# Altium footprint library QUAN-AD-Library.PcbLib: 213 footprints (part 9 of 14)
Each footprint in its own frame and in the unit in brackets; x right, y up, seen from the top. Pads: shape width x height; smd on the part's side, far side on the other; paste and mask are expansions set on the pad; w line width, h text height; cw(c..) or ccw(c..) is an arc to the next point about the centre after c.
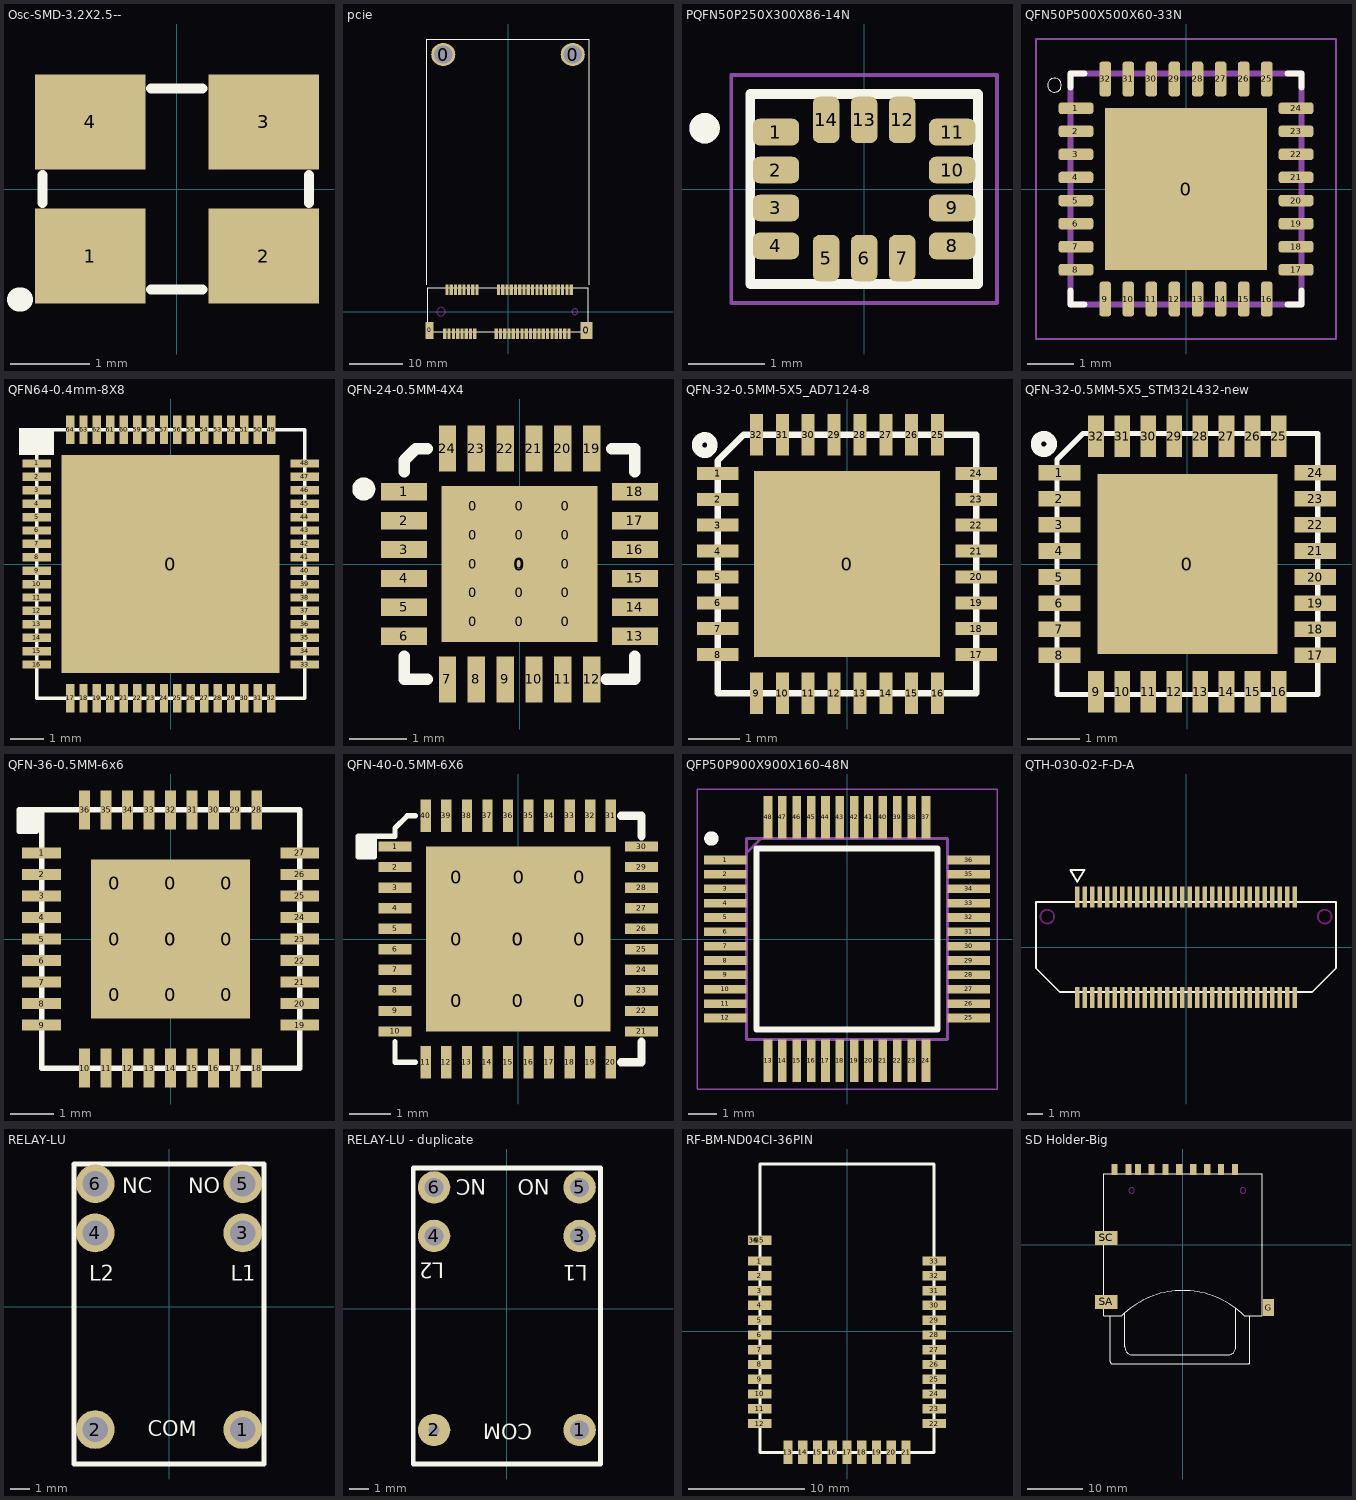
[diagram p8: the footprints below, top view; thin cyan lines are the x and y axes]

## Osc-SMD-3.2X2.5-- [mm] "Osc-SMD-3.2X2.5--"
pads (4):
  rect 1.4x1.2 smd: 1(-1.1,-0.85) 2(1.1,-0.85) 3(1.1,0.85) 4(-1.1,0.85)
Top Overlay:
  lines w0.127: -1.7,-0.175 -1.7,0.175 ; -0.325,-1.275 0.325,-1.275 ; -0.325,1.275 0.325,1.275 ; 1.675,-0.175 1.675,0.175
  lines w0.3: -2,-1.4 -1.975,-1.4

## pcie [mm] "PCIE"
pads (56):
  rect 1.5x3.2 smd: 0(-14.65,-3.5)
  oval 4.5x4.3 hole 3.4: 0(-12.1,48.05) 0(12.1,48.05)
  rect 2.3x3.2 smd: 0(14.65,-3.5)
  rect 0.6x2 smd: 1(-11.8,-4.1) 2(-11.4,4.1) 3(-11,-4.1) 4(-10.6,4.1) 5(-10.2,-4.1) 6(-9.8,4.1) 7(-9.4,-4.1) 8(-9,4.1) 9(-8.6,-4.1) 10(-8.2,4.1) 11(-7.8,-4.1) 12(-7.4,4.1) 13(-7,-4.1) 14(-6.6,4.1) 15(-6.2,-4.1) 16(-5.8,4.1) 17(-2.2,-4.1) 18(-1.8,4.1) 19(-1.4,-4.1) 20(-1,4.1) 21(-0.6,-4.1) 22(-0.2,4.1) 23(0.2,-4.1) 24(0.6,4.1) 25(1,-4.1) 26(1.4,4.1) 27(1.8,-4.1) 28(2.2,4.1) 29(2.6,-4.1) 30(3,4.1) 31(3.4,-4.1) 32(3.8,4.1) 33(4.2,-4.1) 34(4.6,4.1) 35(5,-4.1) 37(5.8,-4.1) 39(6.6,-4.1) 40(7,4.1) 41(7.4,-4.1) 42(7.8,4.1) 43(8.2,-4.1) 44(8.6,4.1) 45(9,-4.1) 46(9.4,4.1) 47(9.8,-4.1) 48(10.2,4.1) 49(10.6,-4.1) 50(11,4.1) 51(11.4,-4.1) 52(11.8,4.1)
  rect 0.55x2 smd: 36(5.4,4.1) 38(6.2,4.1)
Top Overlay:
  lines w0.127: -15.2,5 -15.2,50.95 15.2,50.95 15.2,5 ; -14.95,-3.7 14.95,-3.7 14.95,4.5 -14.95,4.5 -14.95,-3.7
Keep-Out Layer:
  circle w0.1: c-12.5,0 r0.8
  circle w0.1: c12.5,0 r0.55

## PQFN50P250X300X86-14N [mm]
pads (14):
  rrect50% 0.61x0.35 smd: 1(-1.16,0.75) 2(-1.16,0.25) 3(-1.16,-0.25) 4(-1.16,-0.75) 8(1.16,-0.75) 9(1.16,-0.25) 10(1.16,0.25) 11(1.16,0.75)
  rrect50% 0.35x0.61 smd: 5(-0.5,-0.91) 6(0,-0.91) 7(0.5,-0.91) 12(0.5,0.91) 13(0,0.91) 14(-0.5,0.91)
Top Overlay:
  circle w0.2: c-2.1,0.8 r0.1
  lines w0.127: -0.995,-1.25 -1.5,-1.25 ; -0.995,1.25 -1.5,1.25 ; 0.995,-1.25 1.5,-1.25 ; 0.995,1.25 1.5,1.25 ; -1.5,-1.25 1.5,-1.25 ; -1.5,-1.25 -1.5,1.25 ; -1.5,1.25 1.5,1.25 ; 1.5,-1.25 1.5,1.25
Mechanical 13:
  circle w0.2: c-2.1,0.8 r0.1
Mechanical 15:
  lines w0.05: -1.75,-1.5 1.75,-1.5 1.75,1.5 -1.75,1.5 -1.75,-1.5
3D body "step_temp.STEP": height 0.86, standoff 0, extent -1.5,-1.25 1.5,1.25

## QFN50P500X500X60-33N [mm]
pads (33):
  rect 3.5x3.5 smd paste-3: 0(0,0)
  rrect54% 0.76x0.25 smd: 1(-2.385,1.75) 2(-2.385,1.25) 3(-2.385,0.75) 4(-2.385,0.25) 5(-2.385,-0.25) 6(-2.385,-0.75) 7(-2.385,-1.25) 8(-2.385,-1.75) 17(2.385,-1.75) 18(2.385,-1.25) 19(2.385,-0.75) 20(2.385,-0.25) 21(2.385,0.25) 22(2.385,0.75) 23(2.385,1.25) 24(2.385,1.75)
  rrect54% 0.25x0.76 smd: 9(-1.75,-2.385) 10(-1.25,-2.385) 11(-0.75,-2.385) 12(-0.25,-2.385) 13(0.25,-2.385) 14(0.75,-2.385) 15(1.25,-2.385) 16(1.75,-2.385) 25(1.75,2.385) 26(1.25,2.385) 27(0.75,2.385) 28(0.25,2.385) 29(-0.25,2.385) 30(-0.75,2.385) 31(-1.25,2.385) 32(-1.75,2.385)
Top Overlay:
  circle w0: c-2.85,2.25 r0.15
  lines w0.127: -2.5,-2.2 -2.5,-2.5 -2.2,-2.5 ; -2.5,2.2 -2.5,2.5 -2.2,2.5 ; 2.2,-2.5 2.5,-2.5 2.5,-2.2 ; 2.2,2.5 2.5,2.5 2.5,2.2
Top Paste:
  region: 1.1,-1.102 -1.102,-1.102 -1.102,1.1 1.1,1.1
Mechanical 13:
  lines w0.127: -2.5,-2.5 2.5,-2.5 2.5,2.5 -2.5,2.5 -2.5,-2.5
Mechanical 15:
  lines w0.05: -3.25,-3.25 3.25,-3.25 3.25,3.25 -3.25,3.25 -3.25,-3.25
3D body "step_temp.STEP": height 0.6, standoff 0, extent -2.5,-2.5 2.5,2.5

## QFN64-0.4mm-8X8 [mm] "QFN64-0.4mm-8X8"
pads (65):
  rect 6.5x6.5 smd: 0(0,0)
  rect 0.85x0.25 smd: 1(-4,3) 2(-4,2.6) 3(-4,2.2) 4(-4,1.8) 5(-4,1.4) 6(-4,1) 7(-4,0.6) 8(-4,0.2) 9(-4,-0.2) 10(-4,-0.6) 11(-4,-1) 12(-4,-1.4) 13(-4,-1.8) 14(-4,-2.2) 15(-4,-2.6) 16(-4,-3) 33(4,-3) 34(4,-2.6) 35(4,-2.2) 36(4,-1.8) 37(4,-1.4) 38(4,-1) 39(4,-0.6) 40(4,-0.2) 41(4,0.2) 42(4,0.6) 43(4,1) 44(4,1.4) 45(4,1.8) 46(4,2.2) 47(4,2.6) 48(4,3)
  rect 0.25x0.85 smd: 17(-3,-4) 18(-2.6,-4) 19(-2.2,-4) 20(-1.8,-4) 21(-1.4,-4) 22(-1,-4) 23(-0.6,-4) 24(-0.2,-4) 25(0.2,-4) 26(0.6,-4) 27(1,-4) 28(1.4,-4) 29(1.8,-4) 30(2.2,-4) 31(2.6,-4) 32(3,-4) 49(3,4) 50(2.6,4) 51(2.2,4) 52(1.8,4) 53(1.4,4) 54(1,4) 55(0.6,4) 56(0.2,4) 57(-0.2,4) 58(-0.6,4) 59(-1,4) 60(-1.4,4) 61(-1.8,4) 62(-2.2,4) 63(-2.6,4) 64(-3,4)
Top Overlay:
  rectangle: -4.525,3.25 -3.475,4.05
  lines w0.1: -4,-4 4,-4 4,4 -4,4 -4,-4
3D body "User Library-QFN64_8x8.sldprt": height 0.81, standoff 0, extent -4,-4 4,4

## QFN-24-0.5MM-4X4 [mm]
pads (40):
  rect 0.45x0.3 on Top Solder: 0(-0.8,-1) 0(-0.8,-0.5) 0(-0.8,0) 0(-0.8,0.5) 0(-0.8,1) 0(0,-1) 0(0,-0.5) 0(0,0) 0(0,0.5) 0(0,1) 0(0.8,-1) 0(0.8,-0.5) 0(0.8,0) 0(0.8,0.5) 0(0.8,1)
  rect 2.7x2.7 smd: 0(0,0)
  rect 0.8x0.3 smd: 1(-2,1.25) 2(-2,0.75) 3(-2,0.25) 4(-2,-0.25) 5(-2,-0.75) 6(-2,-1.25) 13(2,-1.25) 14(2,-0.75) 15(2,-0.25) 16(2,0.25) 17(2,0.75) 18(2,1.25)
  rect 0.3x0.8 smd: 7(-1.25,-2) 8(-0.75,-2) 9(-0.25,-2) 10(0.25,-2) 11(0.75,-2) 12(1.25,-2) 19(1.25,2) 20(0.75,2) 21(0.25,2) 22(-0.25,2) 23(-0.75,2) 24(-1.25,2)
Top Overlay:
  circle w0.2: c-2.7,1.3 r0.1
  lines w0.2: -2,-1.6 -2,-2 -1.6,-2 ; -2,1.6 -2,1.8 -1.8,2 -1.6,2 ; 1.5,-2 2,-2 2,-1.6 ; 1.6,2 2,2 2,1.6

## QFN-32-0.5MM-5X5_AD7124-8 [mm] "FN-32-0.5MM-5X5_AD7124-8"
pads (33):
  rect 3.6x3.6 smd mask+0.05: 0(0,0)
  rect 0.8x0.25 smd: 1(-2.5,1.75) 2(-2.5,1.25) 3(-2.5,0.75) 4(-2.5,0.25) 5(-2.5,-0.25) 6(-2.5,-0.75) 7(-2.5,-1.25) 8(-2.5,-1.75) 17(2.5,-1.75) 18(2.5,-1.25) 19(2.5,-0.75) 20(2.5,-0.25) 21(2.5,0.25) 22(2.5,0.75) 23(2.5,1.25) 24(2.5,1.75)
  rect 0.25x0.8 smd: 9(-1.75,-2.5) 10(-1.25,-2.5) 11(-0.75,-2.5) 12(-0.25,-2.5) 13(0.25,-2.5) 14(0.75,-2.5) 15(1.25,-2.5) 16(1.75,-2.5) 25(1.75,2.5) 26(1.25,2.5) 27(0.75,2.5) 28(0.25,2.5) 29(-0.25,2.5) 30(-0.75,2.5) 31(-1.25,2.5) 32(-1.75,2.5)
Top Overlay:
  circle w0.2: c-2.75,2.3 r0.15
  lines w0.127: -2.5,-2.5 2.5,-2.5 2.5,2.5 -2,2.5 -2.5,2 -2.5,-2.5

## QFN-32-0.5MM-5X5_STM32L432-new [mm] "QFN-32-0.5MM-5X5_STM32L432-new"
pads (33):
  rect 3.45x3.45 smd: 0(0,0)
  rect 0.8x0.3 smd: 1(-2.45,1.75) 2(-2.45,1.25) 3(-2.45,0.75) 4(-2.45,0.25) 5(-2.45,-0.25) 6(-2.45,-0.75) 7(-2.45,-1.25) 8(-2.45,-1.75) 17(2.45,-1.75) 18(2.45,-1.25) 19(2.45,-0.75) 20(2.45,-0.25) 21(2.45,0.25) 22(2.45,0.75) 23(2.45,1.25) 24(2.45,1.75)
  rect 0.3x0.8 smd: 9(-1.75,-2.45) 10(-1.25,-2.45) 11(-0.75,-2.45) 12(-0.25,-2.45) 13(0.25,-2.45) 14(0.75,-2.45) 15(1.25,-2.45) 16(1.75,-2.45) 25(1.75,2.45) 26(1.25,2.45) 27(0.75,2.45) 28(0.25,2.45) 29(-0.25,2.45) 30(-0.75,2.45) 31(-1.25,2.45) 32(-1.75,2.45)
Top Overlay:
  circle w0.2: c-2.75,2.3 r0.15
  lines w0.1: -2.5,-2.5 2.5,-2.5 2.5,2.5 -2,2.5 -2.5,2 -2.5,-2.5

## QFN-36-0.5MM-6x6 [mm] "QFN-36-0.5MM-6x6"
pads (46):
  rect 0.9x0.9 on Top Paste: 0(-1.3,-1.3) 0(-1.3,0) 0(-1.3,1.3) 0(0,1.3) 0(0,-1.3) 0(0,0) 0(1.3,-1.3) 0(1.3,0) 0(1.3,1.3)
  rect 3.7x3.7 smd paste-5: 0(0,0)
  rect 0.9x0.25 smd: 1(-3,2) 2(-3,1.5) 3(-3,1) 4(-3,0.5) 5(-3,0) 6(-3,-0.5) 7(-3,-1) 8(-3,-1.5) 9(-3,-2) 19(3,-2) 20(3,-1.5) 21(3,-1) 22(3,-0.5) 23(3,0) 24(3,0.5) 25(3,1) 26(3,1.5) 27(3,2)
  rect 0.25x0.9 smd: 10(-2,-3) 11(-1.5,-3) 12(-1,-3) 13(-0.5,-3) 14(0,-3) 15(0.5,-3) 16(1,-3) 17(1.5,-3) 18(2,-3) 28(2,3) 29(1.5,3) 30(1,3) 31(0.5,3) 32(0,3) 33(-0.5,3) 34(-1,3) 35(-1.5,3) 36(-2,3)
Top Overlay:
  rectangle: -3.525,2.5 -3.125,3
  lines w0.127: -3.5,3 -3,3 ; -3,3 -3,-3 3,-3 3,3 -3,3 ; -3.525,2.5 -3.325,2.5 -3.125,2.5 -3.125,3 -3.325,3 -3.525,3 -3.525,2.5

## QFN-40-0.5MM-6X6 [mm] "QFN-40-0.5MM-6X6"
pads (50):
  rect 1.2x1.2 on Top Paste: 0(-1.5,-1.5) 0(-1.5,0) 0(-1.5,1.5) 0(0,-1.5) 0(0,0) 0(0.025,1.5) 0(1.5,-1.5) 0(1.5,1.5) 0(1.5,0)
  rect 4.5x4.5 smd paste-5: 0(0,0)
  rect 0.8x0.25 smd: 1(-3,2.25) 2(-3,1.75) 3(-3,1.25) 4(-3,0.75) 5(-3,0.25) 6(-3,-0.25) 7(-3,-0.75) 8(-3,-1.25) 9(-3,-1.75) 10(-3,-2.25) 21(3,-2.25) 22(3,-1.75) 23(3,-1.25) 24(3,-0.75) 25(3,-0.25) 26(3,0.25) 27(3,0.75) 28(3,1.25) 29(3,1.75) 30(3,2.25)
  rect 0.25x0.8 smd: 11(-2.25,-3) 12(-1.75,-3) 13(-1.25,-3) 14(-0.75,-3) 15(-0.25,-3) 16(0.25,-3) 17(0.75,-3) 18(1.25,-3) 19(1.75,-3) 20(2.25,-3) 31(2.25,3) 32(1.75,3) 33(1.25,3) 34(0.75,3) 35(0.25,3) 36(-0.25,3) 37(-0.75,3) 38(-1.25,3) 39(-1.75,3) 40(-2.25,3)
Top Overlay:
  rectangle: -3.901,2 -3.501,2.5
  lines w0.127: -3,-2.5 -3,-3 -2.5,-3 ; -2.5,3 -2.7,3 -3,2.7 -3,2.5 -3.5,2.5 ; -3.5,2.5 -3.5,2 -3.7,2 -3.9,2 -3.9,2.5 -3.7,2.5 -3.5,2.5
  lines w0.2: 2.5,-3 3,-3 3,-2.5 ; 2.5,3 3,3 3,2.5

## QFP50P900X900X160-48N [mm]
pads (48):
  rect 1.475x0.3 smd: 1(-4.238,2.75) 2(-4.238,2.25) 3(-4.238,1.75) 4(-4.238,1.25) 5(-4.238,0.75) 6(-4.238,0.25) 7(-4.238,-0.25) 8(-4.238,-0.75) 9(-4.238,-1.25) 10(-4.238,-1.75) 11(-4.238,-2.25) 12(-4.238,-2.75) 25(4.238,-2.75) 26(4.238,-2.25) 27(4.238,-1.75) 28(4.238,-1.25) 29(4.238,-0.75) 30(4.238,-0.25) 31(4.238,0.25) 32(4.238,0.75) 33(4.238,1.25) 34(4.238,1.75) 35(4.238,2.25) 36(4.238,2.75)
  rect 0.3x1.475 smd: 13(-2.75,-4.238) 14(-2.25,-4.238) 15(-1.75,-4.238) 16(-1.25,-4.238) 17(-0.75,-4.238) 18(-0.25,-4.238) 19(0.25,-4.238) 20(0.75,-4.238) 21(1.25,-4.238) 22(1.75,-4.238) 23(2.25,-4.238) 24(2.75,-4.238) 37(2.75,4.238) 38(2.25,4.238) 39(1.75,4.238) 40(1.25,4.238) 41(0.75,4.238) 42(0.25,4.238) 43(-0.25,4.238) 44(-0.75,4.238) 45(-1.25,4.238) 46(-1.75,4.238) 47(-2.25,4.238) 48(-2.75,4.238)
Top Overlay:
  circle w0.25: c-4.725,3.5 r0.125
  lines w0.2: -3.15,-3.15 -3.15,3.15 3.15,3.15 3.15,-3.15 -3.15,-3.15
Mechanical 13:
  lines w0.1: -3.5,3 -3,3.5 ; -3.5,-3.5 -3.5,3.5 3.5,3.5 3.5,-3.5 -3.5,-3.5
Mechanical 15:
  lines w0.05: -5.225,-5.225 -5.225,5.225 5.225,5.225 5.225,-5.225 -5.225,-5.225
3D body "STM32F301C8T6.stp": height 1.6, standoff 0, extent -4.5,-4.5 4.5,4.5

## QTH-030-02-F-D-A [mm] "QTH-030-02-F-D-A"
pads (60):
  rect 0.3x1.4 smd: 1(-7.25,3.35) 2(-7.25,-3.35) 3(-6.75,3.35) 4(-6.75,-3.35) 5(-6.25,3.35) 6(-6.25,-3.35) 7(-5.75,3.35) 8(-5.75,-3.35) 9(-5.25,3.35) 10(-5.25,-3.35) 11(-4.75,3.35) 12(-4.75,-3.35) 13(-4.25,3.35) 14(-4.25,-3.35) 15(-3.75,3.35) 16(-3.75,-3.35) 17(-3.25,3.35) 18(-3.25,-3.35) 19(-2.75,3.35) 20(-2.75,-3.35) 21(-2.25,3.35) 22(-2.25,-3.35) 23(-1.75,3.35) 24(-1.75,-3.35) 25(-1.25,3.35) 26(-1.25,-3.35) 27(-0.75,3.35) 28(-0.75,-3.35) 29(-0.25,3.35) 30(-0.25,-3.35) 31(0.25,3.35) 32(0.25,-3.35) 33(0.75,3.35) 34(0.75,-3.35) 35(1.25,3.35) 36(1.25,-3.35) 37(1.75,3.35) 38(1.75,-3.35) 39(2.25,3.35) 40(2.25,-3.35) 41(2.75,3.35) 42(2.75,-3.35) 43(3.25,3.35) 44(3.25,-3.35) 45(3.75,3.35) 46(3.75,-3.35) 47(4.25,3.35) 48(4.25,-3.35) 49(4.75,3.35) 50(4.75,-3.35) 51(5.25,3.35) 52(5.25,-3.35) 53(5.75,3.35) 54(5.75,-3.35) 55(6.25,3.35) 56(6.25,-3.35) 57(6.75,3.35) 58(6.75,-3.35) 59(7.25,3.35) 60(7.25,-3.35)
Top Overlay:
  lines w0.127: -10,-1.4 -8.4,-3 8.4,-3 10,-1.4 10,3 -10,3 -10,-1.4 ; -7.7,5.125 -7.25,4.35 -6.775,5.125 -7.7,5.125
Keep-Out Layer:
  circle w0.127: c9.25,2.03 r0.46
  circle w0.127: c-9.25,2.03 r0.46

## RELAY-LU [mm]
pads (6):
  round 2 hole 1.3: 1(3.81,-6.35) 2(-3.81,-6.35) 3(3.81,3.81) 4(-3.81,3.81) 5(3.81,6.35) 6(-3.81,6.35)
Top Overlay:
  lines w0.254: -4.9,-8.13 4.9,-8.13 4.9,7.37 -4.9,7.37 -4.9,-8.13
  text "NC" at -2.41,5.85 h0.8
  text "NO" at 0.99,5.85 h0.8
  text "COM" at -1.1,-6.7 h0.8
  text "L1" at 3.19,1.35 h0.8
  text "L2" at -4.11,1.35 h0.8

## RELAY-LU - duplicate [mm]
pads (6):
  round 1.7 hole 1: 1(3.81,-6.35) 3(3.81,3.81) 4(-3.81,3.81) 5(3.81,6.35) 6(-3.81,6.35)
  round 1.7 hole 0.58: 2(-3.81,-6.35)
Top Overlay:
  lines w0.254: -4.9,-8.13 -4.9,7.37 4.9,7.37 4.9,-8.13 -4.9,-8.13
  text "L2" at -3.275,2.4 h0.8
  text "L1" at 4.225,2.275 h0.8
  text "COM" at 1.325,-6.025 h0.8
  text "NO" at 2.25,6.775 h0.8
  text "NC" at -1.075,6.775 h0.8

## RF-BM-ND04CI-36PIN [mm] "RF-BM-ND04CI-36PIN"
height 4.5
pads (36):
  rect 2x0.8 smd: 1(-7.5,6.055) 2(-7.5,4.785) 3(-7.5,3.515) 4(-7.5,2.245) 5(-7.5,0.975) 6(-7.5,-0.295) 7(-7.5,-1.565) 8(-7.5,-2.835) 9(-7.5,-4.105) 10(-7.5,-5.375) 11(-7.5,-6.645) 12(-7.5,-7.915) 22(7.5,-7.915) 23(7.5,-6.645) 24(7.5,-5.375) 25(7.5,-4.105) 26(7.5,-2.835) 27(7.5,-1.565) 28(7.5,-0.295) 29(7.5,0.975) 30(7.5,2.245) 31(7.5,3.515) 32(7.5,4.785) 33(7.5,6.055) 35(-7.5,7.855)
  rect 0.8x2 smd: 13(-5.08,-10.395) 14(-3.81,-10.395) 15(-2.54,-10.395) 16(-1.27,-10.395) 17(0,-10.395) 18(1.27,-10.395) 19(2.54,-10.395) 20(3.81,-10.395) 21(5.08,-10.395)
  rect 1x0.8 smd: 34(-8,7.855) 36(-8,7.855)
Top Overlay:
  lines w0.254: -7.5,-10.395 7.5,-10.395 7.5,14.405 -7.5,14.405 -7.5,-10.395

## SD Holder-Big [mm] "SD Holder-Big"
pads (13):
  rect 1.1x2 smd: 1(6.85,13.5) 2(4.35,13.5) 3(1.85,13.5) 4(-0.65,13.5) 5(-3.15,13.5) 6(-5.65,13.5) 7(-8.05,13.5) 8(-9.75,13.5) 9(9.35,13.5) SB(-12.25,13.5)
  rect 2x3 smd: G(15.35,-11.25)
  rect 4x2.5 smd: SA(-13.75,-10.25) SC(-13.75,1.25)
Top Overlay:
  lines w0.127: -13,-12.825 -13,-21 ccw(c-12.7,-21.05) -12.75,-21.35 11.75,-21.35 ccw(c11.7,-21.05) 12,-21 12,-12.75 ; -10.4,-12.2 -10.4,-18.275 ccw(c-9.062,-18.362) -9.15,-19.7 8.25,-19.7 ccw(c8.162,-18.362) 9.5,-18.275 9.5,-11.425 ; -14.2,-12.75 -11,-12.75 cw(c0,-23.75) 11,-12.75 14.2,-12.75 14.2,12.75 -14.2,12.75 -14.2,-12.75
Keep-Out Layer:
  circle w0.127: c10.8,9.75 r0.5
  circle w0.127: c-9.2,9.75 r0.5